# Altium integrated library TESTER_SENSOR_HAL_AT24xx.IntLib: 21 symbols
Pins are listed as number, name and electrical type; pins without a type are passive.

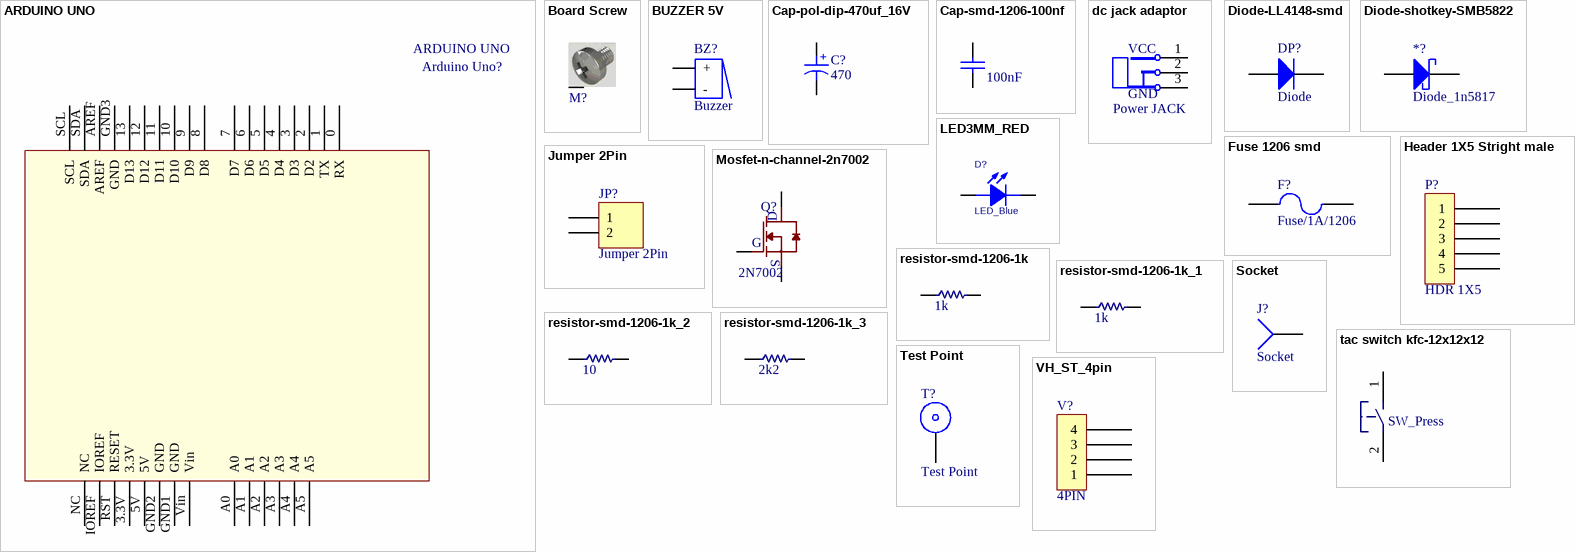
[diagram p0: symbols ARDUINO UNO to VH_ST_4pin]

## ARDUINO UNO
designator Arduino Uno?
footprint ARDUINO UNO
pins: 0 RX, 1 TX, 2 D2, 3 D3, 3.3V, 4 D4, 5 D5, 5V, 6 D6, 7 D7, 8 D8, 9 D9, 10 D10, 11 D11, 12 D12, 13 D13, A0, A1, A2, A3, A4, A5, AREF, GND1 GND, GND2 GND, GND3 GND, IOREF, NC, RST RESET, SCL, SDA, Vin

## Board Screw
designator M?, comment Screw  (value not drawn)
Board Screw With Spacer
footprint Board Screw
footprint Board Screw_No Silk
pins: S

## BUZZER 5V
designator BZ?, comment Buzzer
part: BUZZER 5V; manufacture p-n: BUZZER 12A05; value: 5V 14V Current 30mA) ; RADIAL 12x10 mm; power: CHINA; LIBRARY PATCH: NKH_Contacts.SchLib; Rahkaran: 1011600143; description: Value Applying Rated Voltage(2300-300Hz,12 Duty ,Operating Voltage; case: Cylindrical; supplier1: javan; supplier1 p-n: BUZZER 12A05; Footprint Patch: NKH_Contacts.PcbLib; manufacture: BUZZER 12A05
footprint Buzzer 3M
pins: 1 +, 2 -

## Cap-pol-dip-470uf_16V
designator C?, comment 470
Cap electrolitic radial; part: Cap-pol-dip-470uf_16V; manufacture: Jiaweicheng Elctronic Co; manufacture p-n: KM471M1CBKJ0812VBK; designer: rashid_behdarvand; value: 470UF/16V; LIBRARY PATCH: R_C_D_T.SchLib; Rahkaran: ‎1010600330; supplier1: javan; supplier1 p-n: 470UF/16V-8X12-105C-BLACK; Footprint Patch: R_C_D_T.PcbLib
footprint Cap_polar_8x16
footprint Cap_polar_10x17
footprint CAP_POLAR_4X7
footprint CAP_POLAR_8X11.5
pins: 1, 2
1 alternate drawing of the same symbol
text: +

## Cap-smd-1206-100nf
designator C?, comment 100nF
cap_no_polar_seramic_multilayer; part: Cap-smd-1206-100nf; manufacture: Chaozhou Three-circle (Group) Co; manufacture p-n: TCC1206X7R104K500DT; LIBRARY PATCH: R_C_D_T.SchLib; Rahkaran: 1010600301; value: 100nf; case: 1206; supplier1: javan; supplier1 p-n: 100NF (1206) 50V 10% X7R; Footprint Patch: R_C_D_T.PcbLib
footprint CAP1206
pins: 1, 2
1 alternate drawing of the same symbol

## dc jack adaptor
designator P?, comment Power JACK
part: dc jack adaptor; manufacture p-n: CHINA; description: DC PLUG 5.5MM PCB; LIBRARY PATCH: NKH_Contacts.SchLib; Rahkaran: 1011100270; case: 9*11*13; supplier1: javan; supplier1 p-n: DC PLUG 5.5MM PCB; Footprint Patch: NKH_Contacts.PcbLib
footprint power jack
pins: 1, 2, 3
text: VCC; GND

## Diode-LL4148-smd
designator DP?, comment Diode
3 Amp Medium Power Silicon Rectifier Diode; part: Diode-LL4148-smd; manufacture: Semtech Electronics; manufacture p-n: LL4148; designer: RASHID_BEHDARVAND; value: 75V,200mA; LIBRARY PATCH: R_C_D_T.SchLib; Rahkaran: ‎1010700352; PackageReference: DO-201AD; PackageDescription: Diode, Axial; Body 9.5 x 5.3 mm (LxDia. max), Lead Dia. 1.32 mm (max); supplier1: javan; supplier1 p-n: LL4148; Footprint Patch: R_C_D_T.PcbLib
footprint 1N5408 DO-201AD (Designer Abbas Basereh)
footprint DO214
footprint DO201AD (Designer Abbas Basereh)
footprint SMC (Molded Diode, 2-Leads, Body 7/50x6/80mm, IPC Medium Density-Design:Abbas Basereh)
footprint mini_melf
pins: 1 A, 2 K

## Diode-shotkey-SMB5822
designator *?, comment Diode_1n5817
part: Diode-shotkey-SMB5822; manufacture: Toshiba; manufacture p-n: 1N5822 SMD SS34; LIBRARY PATCH: R_C_D_T.SchLib; Rahkaran: ‎1010700945; supplier1: kalaelec; supplier1 p-n: 1N5822 SMD SS34; Footprint Patch: R_C_D_T.PcbLib
footprint SMA_Diode
pins: 1 A, 2 K

## Fuse 1206 smd
designator F?, comment Fuse  (value not drawn)
part: Fuse 1206 smd; manufacture: Reomax Electronics; manufacture p-n: 12.100.1; value: 1A, 72V; LIBRARY PATCH: R_C_D_T.SchLib; Rahkaran: 1011500951; case: 1206; supplier1: javan; supplier1 p-n: FUSE 1A SMD (1206) ONE TIME; Footprint Patch: R_C_D_T.PcbLib
footprint Fuse 1206 smd
pins: 1, 2
text: Fuse/1A/1206

## Header 1X5 Stright male
designator P?, comment HDR 1X5
part: Header 1X5 Stright male; LIBRARY PATCH: NKH_Contacts.SchLib; supplier1: javan; Footprint Patch: NKH_Contacts.PcbLib
footprint HDR 1X5
pins: 1, 2, 3, 4, 5

## Jumper 2Pin
designator JP?
Jumper, 2-Pin; Designer: Abbas Basereh; Data: 16-12-2016; Link: *; part: Jumper 2Pin; manufacture p-n: Jumper 2Pin; supplier1 p-n: Jumper 2Pin; Footprint Patch: NKH_Contacts.PcbLib
footprint Jumper Small - 2.54 - RED (Designer Abbas Basereh)
pins: 1, 2

## LED3MM_RED
designator D?, comment LED_Blue
LED LIGHTING 5mm Blue; part: LED3MM_RED; manufacture: China; manufacture p-n: LED 3mm; Designer: Abbas Basereh; description: LED LIGHTING 5mm RED; LIBRARY PATCH: R_C_D_T.SchLib; Rahkaran: ‎1010000820; Data: 16-12-2016; Link: *; Part.No: *; supplier1: javan; supplier1 p-n: LED 3mm R; Footprint Patch: R_C_D_T.PcbLib
footprint LED5MM_BLUE (LED 5MM THROUGH HOLE BLUE-Designer Abbas Basereh)
footprint LED-3mm
pins: 1 ANODE, 2 CATHODE

## Mosfet-n-channel-2n7002
designator Q?, comment 2N7002
part: Mosfet-n-channel-2n7002; manufacture: Toshiba Corporation; manufacture p-n: T2N7002AK,LM; LIBRARY PATCH: R_C_D_T.SchLib; Rahkaran: ‎1010301739; supplier1: javan; supplier1 p-n: 2N7002A; Footprint Patch: R_C_D_T.PcbLib
footprint SOT-23
footprint SOT23_BEC_M
pins: 1 G, 2 S, 3 D

## resistor-smd-1206-1k
designator res?, comment 1k
part: resistor-smd-1206-1k; manufacture: ANHUI VICO TECHNOLOGIES CO.; manufacture p-n: 1K (1206) 1%; designer: rashid_behdarvand; LIBRARY PATCH: R_C_D_T.SchLib; Rahkaran: 1012000595; value: 1k; case: 1206; supplier1: javan; supplier1 p-n: 1K (1206) 1%; Footprint Patch: R_C_D_T.PcbLib
footprint Cement resistor
footprint AXIAL-1.0 (Axial Device, Thru-Hole; 2 Leads; 1.0 in Pin Spacing)
footprint RES1206
pins: 1, 2

## resistor-smd-1206-1k_1
designator R?, comment 1k
part: resistor-smd-1206-1k; manufacture: ANHUI VICO TECHNOLOGIES CO.; manufacture p-n: 1K (1206) 1%; designer: rashid_behdarvand; LIBRARY PATCH: R_C_D_T.SchLib; Rahkaran: 1012000595; value: 1k; case: 1206; supplier1: javan; supplier1 p-n: 1K (1206) 1%; Footprint Patch: R_C_D_T.PcbLib
footprint Cement resistor
footprint AXIAL-1.0 (Axial Device, Thru-Hole; 2 Leads; 1.0 in Pin Spacing)
footprint RES1206
pins: 1, 2

## resistor-smd-1206-1k_2
designator R?, comment 10
part: resistor-smd-1206-1k; manufacture: ANHUI VICO TECHNOLOGIES CO.; manufacture p-n: 1K (1206) 1%; designer: rashid_behdarvand; value: 1k; LIBRARY PATCH: R_C_D_T.SchLib; Rahkaran: 1012000595; case: 1206; supplier1: javan; supplier1 p-n: 1K (1206) 1%; Footprint Patch: R_C_D_T.PcbLib
footprint Cement resistor
footprint AXIAL-1.0 (Axial Device, Thru-Hole; 2 Leads; 1.0 in Pin Spacing)
footprint RES1206
pins: 1, 2

## resistor-smd-1206-1k_3
designator R?, comment 2k2
part: resistor-smd-1206-1k; manufacture: ANHUI VICO TECHNOLOGIES CO.; manufacture p-n: 1K (1206) 1%; designer: rashid_behdarvand; value: 1k; LIBRARY PATCH: R_C_D_T.SchLib; Rahkaran: 1012000595; case: 1206; supplier1: javan; supplier1 p-n: 1K (1206) 1%; Footprint Patch: R_C_D_T.PcbLib
footprint Cement resistor
footprint AXIAL-1.0 (Axial Device, Thru-Hole; 2 Leads; 1.0 in Pin Spacing)
footprint RES1206
pins: 1, 2

## Socket
designator J?
LIBRARY PATCH: NKH_Contacts.SchLib; LatestRevisionDate: 17-Jul-2002; LatestRevisionNote: Re-released for DXP Platform.; Publisher: Altium Limited; part: Socket; supplier1: javan; Footprint Patch: NKH_Contacts.PcbLib
footprint PIN1
pins: 1

## tac switch kfc-12x12x12
designator sw?, comment SW_Press
small tac switch; part: tac switch kfc-12x12x12; manufacture p-n: CHINA; description: tact switch 12x12x12mm; LIBRARY PATCH: NKH_Contacts.SchLib; Rahkaran: 1011800267; case: kfc-12x12; supplier1: javan; supplier1 p-n: KFC-12X12X12; Footprint Patch: NKH_Contacts.PcbLib
footprint tact_kfc-12x12
pins: 1, 2

## Test Point
designator T?
Pogo Pin; LIBRARY PATCH: NKH_Contacts.SchLib; LatestRevisionDate: 17-Jul-2002; LatestRevisionNote: Re-released for DXP Platform.; Publisher: Altium Limited; part: Test Point; Footprint Patch: NKH_Contacts.PcbLib
footprint Pogo (Connector; Plug)
pins: 1

## VH_ST_4pin
designator V?, comment 4PIN
connector power 4pin stright lock; part: VH_ST_4pin; LIBRARY PATCH: NKH_Contacts.SchLib; Rahkaran: 1011100529; value: Connector; Footprint Patch: NKH_Contacts.PcbLib
footprint 4PIN
pins: 1, 2, 3, 4